# Altium footprint library ASB.PcbLib: 22 footprints (part 1 of 2)
Each footprint in its own frame and in the unit in brackets; x right, y up, seen from the top. Pads: shape width x height; smd on the part's side, far side on the other; paste and mask are expansions set on the pad; w line width, h text height; cw(c..) or ccw(c..) is an arc to the next point about the centre after c.
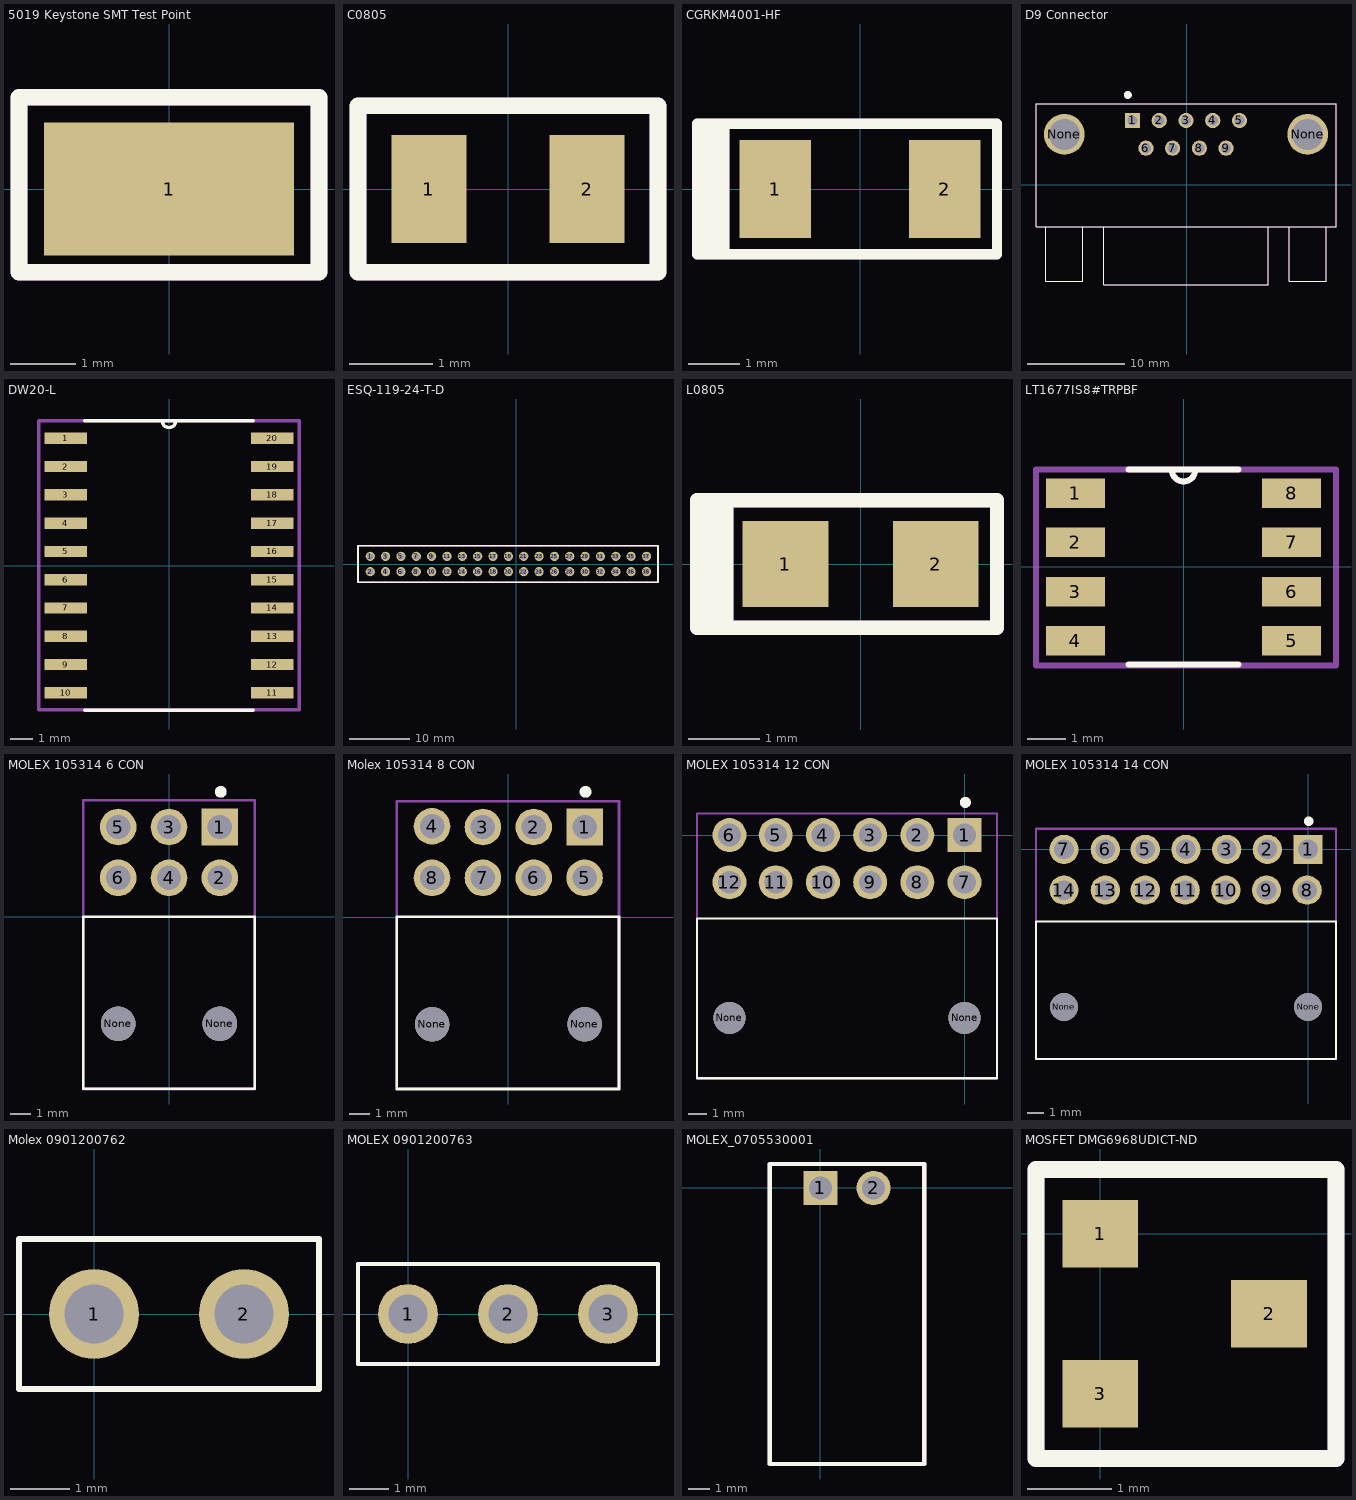
[diagram p0: the footprints below, top view; thin cyan lines are the x and y axes]

## 5019 Keystone SMT Test Point [mil]
pads (1):
  rect 150x80 smd: 1(0,0)
Top Overlay:
  lines w10: -90,-50 -90,55 90,55 90,-50 -90,-50
Mechanical 5:
  lines w10: -90,-50 90,-50 90,55 -90,55 -90,-50
  text "'.Designator'" at -80,-15 h19.68
3D body "5019 KEYSTONE SMT TEST POINT.STEP": height 86.34, standoff -3.66, extent -75,-39.96 75,39.96

## C0805 [mm]
pads (2):
  rect 0.9x1.3 smd: 1(-0.95,0) 2(0.95,0)
Top Overlay:
  lines w0.2: -1.8,-1 -1.8,1 1.8,1 1.8,-1 -1.8,-1
Mechanical 5:
  lines w0.2: -1.8,-1 1.8,-1 1.8,1 -1.8,1 -1.8,-1
  text "'.Designator'" at -1.6,-0.102 h0.3
3D body "C0805.step": height 0.94, standoff 0, extent -1.054,-0.673 1.054,0.673

## CGRKM4001-HF [mil]
pads (2):
  rect 55x75 smd: 1(-65,0) 2(65,0)
Top Overlay:
  rectangle: -125,-50 -100,50
  lines w7.87: -125,-50 -125,50 105,50 105,-50 -125,-50
Mechanical 5:
  rectangle: -125,-50 -100,50
  lines w7.87: -125,-50 -125,50 105,50 105,-50 -125,-50
  text "'.Designator'" at -92,-11 h19.68
3D body "CGRKM.step": height 67.24, standoff 0, extent -73,-35.52 72.99,35.5

## D9 Connector [mil]
pads (11):
  rect 61.5x61.5 hole 41: 1(-220,260)
  round 61.5 hole 41: 2(-112,260) 3(-4,260) 4(104,260) 5(212,260) 6(-166,148) 7(-58,148) 8(50,148) 9(158,148)
  round 165 hole 125: None(-496,204) None(488,204)
Top Overlay:
  circle w15.75: c-239.04,363.15 r7.87
  lines w5: -571.5,-169.92 -571.5,-390 -420.5,-390 -420.5,-169.92 ; -571.5,-169.92 -610.5,-169.92 -610.5,328.11 602.5,328.11 602.5,-169.92 563.5,-169.92 ; -571.5,-169.92 -420.5,-169.92 ; -420.5,-169.92 -337.07,-169.92 ; -337.07,-169.92 -337.07,-404.96 329.07,-404.96 329.07,-169.92 ; -337.07,-169.92 329.07,-169.92 ; 329.07,-169.92 412.5,-169.92 ; 412.5,-169.92 412.5,-390 563.5,-390 563.5,-169.92 ; 412.5,-169.92 563.5,-169.92
Mechanical 5:
  circle w15.75: c-239.04,363.15 r7.87
  lines w5: -571.5,-169.92 -420.5,-169.92 ; -571.5,-169.92 -610.5,-169.92 -610.5,328.11 602.5,328.11 602.5,-169.92 563.5,-169.92 ; -571.5,-169.92 -571.5,-390 -420.5,-390 -420.5,-169.92 ; -420.5,-169.92 -337.07,-169.92 ; -337.07,-169.92 329.07,-169.92 ; -337.07,-169.92 -337.07,-404.96 329.07,-404.96 329.07,-169.92 ; 329.07,-169.92 412.5,-169.92 ; 412.5,-169.92 563.5,-169.92 ; 412.5,-169.92 412.5,-390 563.5,-390 563.5,-169.92
  text "'.Designator'" at -120,35 h28
3D body "CONN_5747840-6 (D9 Connector).step": height 509.02, standoff -125, extent -619.01,-415 609.02,340

## DW20-L [mil]
pads (20):
  rect 75x20 smd: 1(-182.5,225) 2(-182.5,175) 3(-182.5,125) 4(-182.5,75) 5(-182.5,25) 6(-182.5,-25) 7(-182.5,-75) 8(-182.5,-125) 9(-182.5,-175) 10(-182.5,-225) 11(182.5,-225) 12(182.5,-175) 13(182.5,-125) 14(182.5,-75) 15(182.5,-25) 16(182.5,25) 17(182.5,75) 18(182.5,125) 19(182.5,175) 20(182.5,225)
Top Overlay:
  lines w6: -149.5,-256 149.5,-256 ; -149.5,256 149.5,256 ; -12,256 ccw(c0,256) 12,256
Mechanical 5:
  lines w5.98: -230,-255 -230,256 ; 230,-255 230,256
  lines w6: -230,-255 230,-255 ; -230,256 230,256 ; -12,256 ccw(c0,256) 12,256
  text "'.Designator'" at -143,-7 h27.56
3D body "DW20-L.stp": height 104.1, standoff 0, extent -209.5,-256 209.5,256

## ESQ-119-24-T-D [mil] "2x19 Elevated Socket"
pads (38):
  round 60 hole 40: 1(-950,50) 2(-950,-50) 3(-850,50) 4(-850,-50) 5(-750,50) 6(-750,-50) 7(-650,50) 8(-650,-50) 9(-550,50) 10(-550,-50) 11(-450,50) 12(-450,-50) 13(-350,50) 14(-350,-50) 15(-250,50) 16(-250,-50) 17(-150,50) 18(-150,-50) 19(-50,50) 20(-50,-50) 21(50,50) 22(50,-50) 23(150,50) 24(150,-50) 25(250,50) 26(250,-50) 27(350,50) 28(350,-50) 29(450,50) 30(450,-50) 31(550,50) 32(550,-50) 33(650,50) 34(650,-50) 35(750,50) 36(750,-50) 37(850,50) 38(850,-50)
Top Overlay:
  lines w10: -1030,-117.48 -1030,117.48 925,117.48 925,58.74 925,-58.74 925,-117.48 -1030,-117.48
Mechanical 5:
  lines w10: -1030,-117.48 925,-117.48 925,-58.74 925,58.74 925,117.48 -1030,117.48 -1030,-117.48
  text "'.Designator'" at 0,0 h28
3D body "ESQ-119-24-T-D.stp": height 535.5, standoff -379.5, extent -1022.99,-97.64 897.01,102.36

## L0805 [mm]
pads (2):
  rect 1.2x1.2 smd: 1(-1.05,0) 2(1.05,0)
Top Overlay:
  rectangle: -2.286,-0.889 -1.778,0.889
  lines w0.2: -2.286,-0.889 1.905,-0.889 1.905,0.889 -2.286,0.889 -2.286,-0.889
Mechanical 5:
  rectangle: -2.286,-0.889 -1.778,0.889
  lines w0.2: -2.286,-0.889 -2.286,0.889 1.905,0.889 1.905,-0.889 -2.286,-0.889
  text "'.Designator'" at -1.524,-0.305 h0.5
3D body "L0805.step": height 0.82, standoff 0, extent -1,-0.625 1,0.625

## LT1677IS8#TRPBF [mil] "IC OPAMP GP 7.2MHZ RRO 8SO"
pads (8):
  rect 60x30 smd: 1(-110,75) 2(-110,25) 3(-110,-25) 4(-110,-75) 5(110,-75) 6(110,-25) 7(110,25) 8(110,75)
Top Overlay:
  lines w6: -56,-99 56,-99 ; -56,99 -12,99 ; 56,99 12,99 ; -12,99 ccw(c0,99) 12,99 ; -12,99 12,99
Mechanical 5:
  lines w5.98: -150,-100 -150,99 ; 155,-100 155,99
  lines w6: -150,-100 155,-100 ; -150,99 -12,99 ; 155,99 12,99 ; -12,99 ccw(c0,99) 12,99 ; -12,99 12,99
  text "'.Designator'" at -65,-10 h19.68
3D body "SOIC08 narrow.stp": height 78.74, standoff 0.13, extent -121.32,-98.42 121.32,98.43

## MOLEX 105314 6 CON [mm]
pads (8):
  rect 1.8x1.8 hole 1.2: 1(2.5,4.408)
  round 1.8 hole 1.2: 2(2.5,1.908) 3(0,4.408) 4(0,1.908) 5(-2.5,4.408) 6(-2.5,1.908)
  round 1.7 hole 1.7 unplated: None(-2.5,-5.272) None(2.5,-5.272)
Top Overlay:
  circle w0.3: c2.547,6.138 r0.14
  lines w0.127: -4.22,-8.472 -4.22,-0.012 4.22,-0.012 4.22,-8.472 -4.22,-8.472
Mechanical 5:
  lines w0.127: -4.22,-8.475 4.22,-8.475 4.22,5.715 -4.22,5.715 -4.22,-8.475
  text "'.Designator'" at -3.81,-4.826 h0.71
3D body "MOLEX 105314 11 06 CON.stp": height 8.85, standoff -3.49, extent -4.22,-9.869 4.22,4.789

## Molex 105314 8 CON [mm]
pads (10):
  rect 1.8x1.8 hole 1.2: 1(3.75,4.441)
  round 1.8 hole 1.2: 2(1.25,4.441) 3(-1.25,4.441) 4(-3.75,4.478) 5(3.75,1.941) 6(1.25,1.941) 7(-1.25,1.941) 8(-3.75,1.941)
  round 1.7 hole 1.7 unplated: None(-3.75,-5.26) None(3.75,-5.26)
Top Overlay:
  circle w0.3: c3.797,6.171 r0.14
  lines w0.127: 5.441,-8.44 5.441,0.02 ; 5.449,-8.439 -5.481,-8.439 -5.481,0.021 5.449,0.021
Mechanical 5:
  lines w0.127: -5.481,-8.433 5.441,-8.433 5.441,5.715 -5.481,5.715 -5.481,-8.433
  text "'.Designator'" at -3.937,-4.191 h0.71
3D body "1053141208.stp": height 8.85, standoff -3.49, extent -5.47,-9.881 5.47,4.777

## MOLEX 105314 12 CON [mm]
pads (14):
  rect 1.8x1.8 hole 1.2: 1(0,0)
  round 1.8 hole 1.2: 2(-2.5,0) 3(-5,0) 4(-7.5,0) 5(-10,0) 6(-12.45,0) 7(0,-2.5) 8(-2.5,-2.5) 9(-5,-2.5) 10(-7.5,-2.5) 11(-10,-2.5) 12(-12.45,-2.5)
  round 1.7 hole 1.7 unplated: None(-12.45,-9.68) None(0,-9.68)
Top Overlay:
  circle w0.3: c0.047,1.73 r0.14
  lines w0.127: -14.17,-12.88 -14.17,-4.42 1.72,-4.42 1.72,-12.88 -14.17,-12.88
Mechanical 5:
  lines w0.127: -14.17,-12.878 1.72,-12.878 1.72,1.143 -14.17,1.143 -14.17,-12.878
  text "'.Designator'" at -8.636,-8.89 h0.71
3D body "MOLEX 105314 11 12 CON.stp": height 9.15, standoff -3.19, extent -14.193,-14.314 1.747,0.344

## MOLEX 105314 14 CON [mm]
pads (16):
  rect 1.8x1.8 hole 1.2: 1(0,0)
  round 1.8 hole 1.2: 2(-2.5,0) 3(-5,0) 4(-7.5,0) 5(-10,0) 6(-12.45,0) 7(-14.992,0) 8(-0.05,-2.5) 9(-2.55,-2.5) 10(-5.05,-2.5) 11(-7.55,-2.5) 12(-10,-2.5) 13(-12.45,-2.5) 14(-14.992,-2.5)
  round 1.7 hole 1.7 unplated: None(-14.992,-9.68) None(0,-9.68)
Top Overlay:
  circle w0.3: c0.047,1.73 r0.14
  lines w0.127: -16.712,-12.88 1.72,-12.88 1.72,-4.42 -15.494,-4.42 -16.712,-4.42 -16.712,-12.88
Mechanical 5:
  lines w0.127: -16.712,-12.878 -16.712,1.27 -9.804,1.27 1.72,1.27 1.72,-12.878 -16.712,-12.878
  text "'.Designator'" at -11.303,-8.763 h0.71
3D body "MOLEX 105314 11 14 CON.stp": height 9.15, standoff -3.19, extent -16.713,-14.314 1.727,0.344

## Molex 0901200762 [mil]
pads (2):
  round 60 hole 39.37: 1(0,0) 2(100,0)
Top Overlay:
  lines w3.94: 45,50 150,50 150,-50 -50,-50 -50,50 50,50
Mechanical 5:
  lines w3.94: 45,50 150,50 150,-50 -50,-50 -50,50 50,50
  text "'.Designator'" at -39,-10 h19.68
3D body "Molex 901200762.stp": height 364.67, standoff -112.37, extent -50,-49.21 150,49.21

## MOLEX 0901200763 [mil]
pads (3):
  round 60 hole 39.37: 1(0,0) 2(100,0) 3(200,0)
Top Overlay:
  lines w3.94: 45,50 250,50 250,-50 -50,-50 -50,50 50,50
Mechanical 5:
  lines w3.94: 45,50 250,50 250,-50 -50,-50 -50,50 50,50
  text "'.Designator'" at -35,-10 h28
3D body "901200763.stp": height 364.67, standoff -112.38, extent -50,-49.21 250,49.21

## MOLEX_0705530001 [mm]
pads (2):
  rect 1.635x1.635 hole 1.09: 1(0,0)
  round 1.635 hole 1.09: 2(2.54,0)
Top Overlay:
  lines w0.2: -2.415,-13.173 -0.573,-13.173 3.113,-13.173 4.955,-13.173 4.955,1.143 -2.415,1.143 -2.415,-13.081
Mechanical 5:
  lines w0.2: -2.415,-13.173 -0.573,-13.173 3.113,-13.173 4.955,-13.173 4.955,1.143 -2.415,1.143 -2.415,-13.081
  text "'.Designator'" at -2.54,-5.715 h0.7
3D body "705530001.stp": height 6.62, standoff -3.67, extent -2.413,-12.89 4.953,0.698

## MOSFET DMG6968UDICT-ND [mm]
pads (3):
  rect 0.9x0.8 smd: 1(0,0) 2(2,-0.95) 3(0,-1.9)
Top Overlay:
  lines w0.2: -0.762,-2.667 -0.762,0.762 2.794,0.762 2.794,-2.667 -0.762,-2.667
Mechanical 5:
  lines w0.2: -0.762,-2.667 -0.762,0.762 2.794,0.762 2.794,-2.667 -0.762,-2.667
  text "'.Designator'" at -0.508,-1.27 h0.5
3D body "SOT23-3.stp": height 1.2, standoff 0.02, extent -0.402,-2.44 2.434,0.56